# EAGLE library part LM2662 (library patrick_custom)
Switched Capacitor Voltage Converter
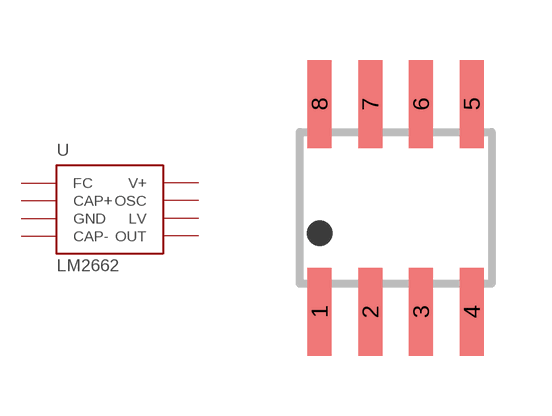
[diagram p3: symbol with the pads of SOIC-8; footprint SOIC-8]

Designator prefix U

## LM2662  [SOIC-8]
1  FC
2  CAP+
3  GND
4  CAP-
5  OUT
6  LV
7  OSC
8  V+

## Footprint SOIC-8 (pad centres in mm)
smd 0.6 x 2.2: 1 -1.905,-2.6; 2 -0.635,-2.6; 3 0.635,-2.6; 4 1.905,-2.6; 5 1.905,2.6; 6 0.635,2.6; 7 -0.635,2.6; 8 -1.905,2.6